# Altium footprint library Klema.PcbLib: 1 footprints
Each footprint in its own frame and in the unit in brackets; x right, y up, seen from the top. Pads: shape width x height; smd on the part's side, far side on the other; paste and mask are expansions set on the pad; w line width, h text height; cw(c..) or ccw(c..) is an arc to the next point about the centre after c.
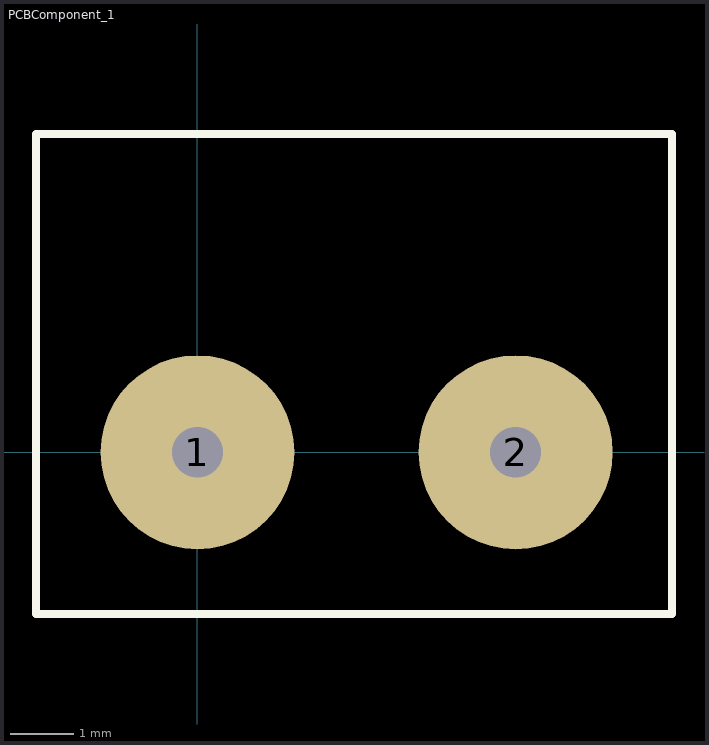
[diagram p0: the footprint, top view; thin cyan lines are the x and y axes]

## PCBComponent_1 [mil]
pads (2):
  round 120 hole 31.5: 1(0,0) 2(196.85,0)
Top Overlay:
  lines w5: -100,-100 -100,196.85 293.7,196.85 293.7,-100 -100,-100